# EAGLE library part MSP430LAUNCHPAD_BASIC (library msp430launchpad)
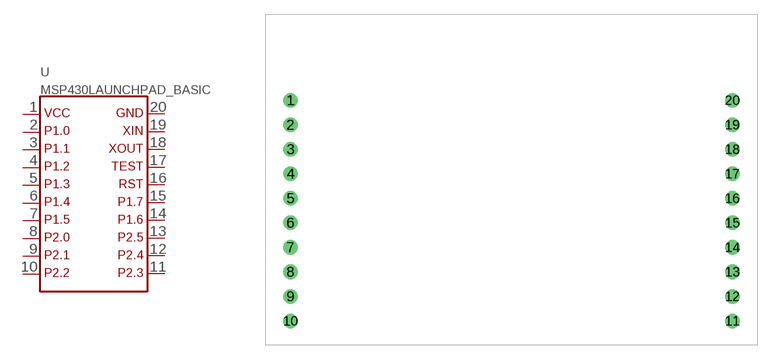
[diagram p1: symbol with the pads of MSP430LAUNCHPAD_BASIC; footprint MSP430LAUNCHPAD_BASIC]

Designator prefix -

## MSP430LAUNCHPAD_BASIC  [MSP430LAUNCHPAD_BASIC]
1  1
2  2
3  3
4  4
5  5
6  6
7  7
8  8
9  9
10  10
11  11
12  12
13  13
14  14
15  15
16  16
17  17
18  18
19  19
20  20

## Footprint MSP430LAUNCHPAD_BASIC (pad centres in mm)
drill 1: 1 -22.86,11.43; 2 -22.86,8.89; 3 -22.86,6.35; 4 -22.86,3.81; 5 -22.86,1.27; 6 -22.86,-1.27; 7 -22.86,-3.81; 8 -22.86,-6.35; 9 -22.86,-8.89; 10 -22.86,-11.43; 11 22.86,-11.43; 12 22.86,-8.89; 13 22.86,-6.35; 14 22.86,-3.81; 15 22.86,-1.27; 16 22.86,1.27; 17 22.86,3.81; 18 22.86,6.35; 19 22.86,8.89; 20 22.86,11.43